# EAGLE library part RELAY_DPDT_TN (library wheat)
relay, DPDT Panaonic TN
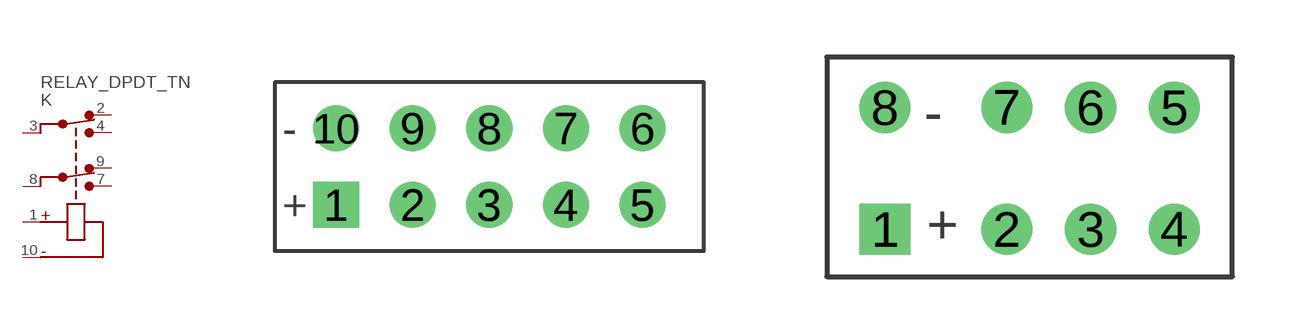
[diagram p123: symbol with the pads of RELAY_TN; footprints RELAY_TN, RELAY_GN]

Designator prefix K

## RELAY_DPDT_TN  [RELAY_TN]
1  C+  pas
2  NC1  pas
3  COM1  pas
4  NO1  pas
7  NO2  pas
8  COM2  pas
9  NC2  pas
10  C-  pas

## RELAY_DPDT_TN_GN  [RELAY_GN]
1  C+  pas
2  NC1  pas
3  COM1  pas
4  NO1  pas
5  NO2  pas
6  COM2  pas
7  NC2  pas
8  C-  pas

## Footprint RELAY_TN (pad centres in mm)
relay, DPDT Panasonic TN
drill 1.016 square: 1 -5.08,-1.27
drill 1.016: 2 -2.54,-1.27; 3 0,-1.27; 4 2.54,-1.27; 5 5.08,-1.27; 6 5.08,1.27; 7 2.54,1.27; 8 0,1.27; 9 -2.54,1.27; 10 -5.08,1.27

## Footprint RELAY_GN (pad centres in mm)
Relay, Panasonic/Aromat/Nais GN/AGN
drill 0.838 square: 1 -3.8,-1.6
drill 0.838: 2 -0.6,-1.6; 3 1.6,-1.6; 4 3.8,-1.599; 5 3.8,1.6; 6 1.6,1.6; 7 -0.6,1.6; 8 -3.8,1.6